# Altium schematic symbol library ECS-80-12-33-JGN-TR.SchLib: 2 symbols
Pins are listed as number, name and electrical type; pins without a type are passive.

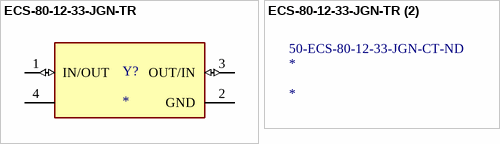
[diagram p0: symbols ECS-80-12-33-JGN-TR to ECS-80-12-33-JGN-TR (2)]

## ECS-80-12-33-JGN-TR
designator Y?
8 MHz Â±20ppm Crystal 12pF 400 Ohms 4-SMD, No Lead; MF: ECS Inc.; MP: ECS-80-12-33-JGN-TR; SnapEDA_Link: https://www.snapeda.com/parts/ECS-80-12-33-JGN-TR/ECS/view-part/?ref=snap; Package: ECX-32-33-4 ECS; Value: *; Check_prices: https://www.snapeda.com/parts/ECS-80-12-33-JGN-TR/ECS/view-part/?ref=eda
footprint XTAL_ECS-240-8-33-AGN-TR
pins: 1 IN/OUT (io), 2 GND (power), 3 OUT/IN (io), 4 GND (power)

## ECS-80-12-33-JGN-TR (2)
designator *  Supplier Part Number 1: 50-ECS-80-12-33-JGN-CT-ND
Crystal 8MHz ±20ppm (Tol) ±30ppm (Stability) 12pF FUND 400Ohm 4-Pin Mini-CSMD T/R; Manufacturer: ECS International; Manufacturer Part Number: ECS-80-12-33-JGN-TR; Supplier 1: Digikey; RoHS: No; Category: Crystals; Stock 1: 25392; Pricing 1: 1=0.56, 10=0.486, 50=0.4402, 100=0.422, 500=0.38258 (USD); RoHS Compliant: Yes; ComponentLink1URL: https://datasheet.octopart.com/ECS-80-12-33-JGN-TR-ECS-International-datasheet-140089731.pdf?src-supplier=Future+Electronics; ComponentLink1Description: https://datasheet.octopart.com/ECS-80-12-33-JGN-TR-ECS-International-datasheet-140089731.pdf?src-supplier=Future+Electronics; ComponentLink2URL: https://datasheet.octopart.com/ECS-80-12-33-JGN-TR-ECS-International-datasheet-17018741.pdf?src-supplier=Master+Electronics; ComponentLink2Description: https://datasheet.octopart.com/ECS-80-12-33-JGN-TR-ECS-International-datasheet-17018741.pdf?src-supplier=Master+Electronics